# EAGLE library part X_STEPPER (library i3_Pick_Place)
Pinout for X stepper motors
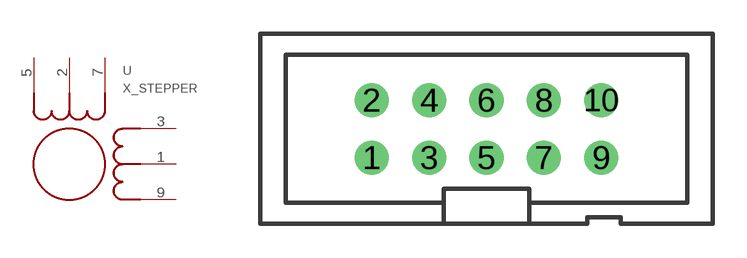
[diagram p1: symbol with the pads of 2X5_SHROUDED; footprint 2X5_SHROUDED]

Designator prefix -

## X_STEPPER  [2X5_SHROUDED]
1  CB
2  CA
3  B1
5  A1
7  A2
9  B2

## Footprint 2X5_SHROUDED (pad centres in mm)
2x5 0.1" shrouded header
drill 1 pad 1.422: 1 -5.08,-1.27; 2 -5.08,1.27; 3 -2.54,-1.27; 4 -2.54,1.27; 5 0,-1.27; 6 0,1.27; 7 2.54,-1.27; 8 2.54,1.27; 9 5.08,-1.27; 10 5.08,1.27